# Altium schematic symbol library CAT3626.SchLib: 1 symbol
Pins are listed as number, name and electrical type; pins without a type are passive.

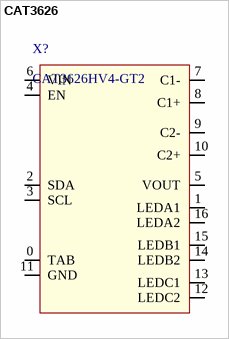
[diagram p0: symbol CAT3626]

## CAT3626
designator X?, comment CAT3626HV4-GT2
PDF: http://www.onsemi.com/pub_link/Collateral/CAT3626-D.PDF; PRICE: 1.72000; BUY_LINK: http://www.digikey.com/product-detail/en/CAT3626HV4-GT2/CAT3626HV4-GT2OSCT-ND/3487299; ID: CAT3626HV4-GT2
footprint TQFN16
pins: 0 TAB, 1 LEDA1, 2 SDA, 3 SCL, 4 EN, 5 VOUT, 6 VIN, 7 C1-, 8 C1+, 9 C2-, 10 C2+, 11 GND, 12 LEDC2, 13 LEDC1, 14 LEDB2, 15 LEDB1, 16 LEDA2